# EAGLE library part MOMO-EDGE-SMALL-M (library components)
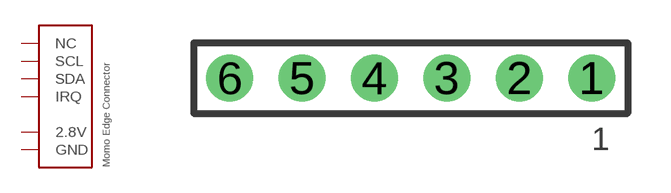
[diagram p20: symbol with the pads of MOMO-EDGE-SMALL-6M; footprint MOMO-EDGE-SMALL-6M]

Designator prefix -

## MOMO-EDGE-SMALL-M  [MOMO-EDGE-SMALL-6M]
1  2.8V  pwr
2  NC  pwr
3  SCL
4  SDA
5  IRQ
6  GND  pwr

## Footprint MOMO-EDGE-SMALL-6M (pad centres in mm)
drill 1.1: 1 6.35,0; 2 3.81,0; 3 1.27,0; 4 -1.27,0; 5 -3.81,0; 6 -6.35,0